# Altium footprint library ECG_Signals_V1.0_ZM_20211208.PcbLib: 23 footprints (part 2 of 2)
Each footprint in its own frame and in the unit in brackets; x right, y up, seen from the top. Pads: shape width x height; smd on the part's side, far side on the other; paste and mask are expansions set on the pad; w line width, h text height; cw(c..) or ccw(c..) is an arc to the next point about the centre after c.
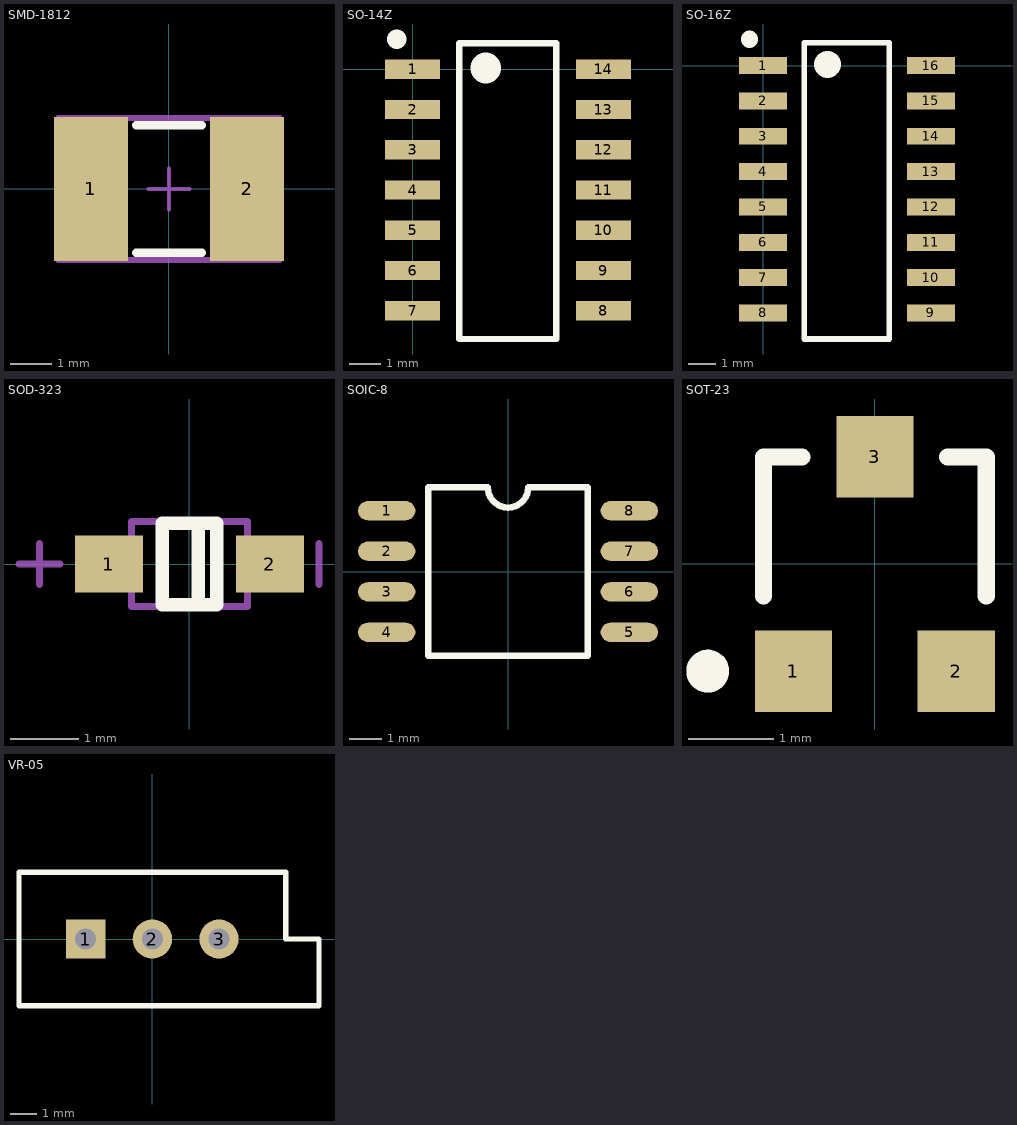
[diagram p1: the footprints below, top view; thin cyan lines are the x and y axes]

## SMD-1812 [mm]
height 2.65
pads (2):
  rect 1.8x3.5 smd: 1(-1.9,0) 2(1.9,0)
Top Overlay:
  lines w0.2: -0.8,-1.55 0.8,-1.55 ; -0.8,1.55 0.8,1.55
Mechanical 13:
  lines w0.1: -2.4,-1.7 2.4,-1.7 2.4,1.7 -2.4,1.7 -2.4,-1.7
Mechanical 15:
  lines w0.1: -0.5,0 0.5,0 ; 0,-0.5 0,0.5 ; -2.7,-1.75 2.7,-1.75 2.7,1.75 -2.7,1.75 -2.7,-1.75
3D body: height 1.4, standoff 0, extent -2.4,-1.7 2.4,1.7

## SO-14Z [mil]
height 104.33
pads (14):
  rect 68x24 smd: 1(0,0) 2(0,-50) 3(0,-100) 4(0,-150) 5(0,-200) 6(0,-250) 7(0,-300) 8(237.11,-300) 9(237.11,-250) 10(237.11,-200) 11(237.11,-150) 12(237.11,-100) 13(237.11,-50) 14(237.11,0)
Top Overlay:
  lines w8: 58.07,-335 178.35,-335 178.35,32.28 58.07,32.28 58.07,-335
  lines w24: -19.49,37.2 -19.49,37.6
  lines w38: 91.04,1.48 91.04,1.87

## SO-16Z [mil]
height 104.33
pads (16):
  rect 68x24 smd: 1(0,0) 2(0,-50) 3(0,-100) 4(0,-150) 5(0,-200) 6(0,-250) 7(0,-300) 8(0,-350) 9(237.11,-350) 10(237.11,-300) 11(237.11,-250) 12(237.11,-200) 13(237.11,-150) 14(237.11,-100) 15(237.11,-50) 16(237.11,0)
Top Overlay:
  lines w8: 58.07,-386.81 58.07,32.28 178.35,32.28 178.35,-386.81 58.07,-386.81
  lines w24: -19.49,37.2 -19.49,37.6
  lines w38: 91.04,1.48 91.04,1.87

## SOD-323 [mm]
height 2.65
pads (2):
  rect 1x0.83 smd: 1(-1.18,0) 2(1.18,0)
Top Overlay:
  lines w0.2: 0.13,-0.6 0.13,0.6 ; -0.4,-0.6 -0.4,0.6 0.4,0.6 0.4,-0.6 -0.4,-0.6
Mechanical 13:
  lines w0.1: -0.85,-0.625 -0.85,0.625 0.85,0.625 0.85,-0.625 -0.85,-0.625
Mechanical 15:
  lines w0.1: -2.5,0 -1.9,0 ; -2.2,-0.3 -2.2,0.3 ; 1.9,-0.3 1.9,0.3
3D body: height 0.75, standoff -0.01, extent -1.4,-0.675 1.4,0.675

## SOIC-8 [mm]
height 2.65
pads (8):
  oval 1.8x0.6 smd: 1(-3.8,1.905) 2(-3.8,0.635) 3(-3.8,-0.635) 4(-3.8,-1.905) 5(3.8,-1.905) 6(3.8,-0.635) 7(3.8,0.635) 8(3.8,1.905)
Top Overlay:
  lines w0.203: -0.635,2.637 ccw(c0,2.64) 0.635,2.637 ; -0.635,2.64 -2.5,2.64 -2.5,-2.64 2.489,-2.64 ; 0.635,2.64 2.489,2.64 ; 2.5,-2.64 2.5,2.64
3D body: height 2.3, standoff -0.02, extent -4.196,-2.69 4.196,2.69

## SOT-23 [mm] "SOT-23; 3 Leads; Body 3.0 x 2.6 mm, inc. leads (LxW max)"
height 1.1
pads (3):
  rect 0.9x0.95 smd: 1(-0.95,-1.25) 2(0.95,-1.25) 3(0,1.25)
Top Overlay:
  circle w0.25: c-1.95,-1.25 r0.125
  lines w0.2: -1.3,-0.375 -1.3,1.25 -0.85,1.25 ; 0.85,1.25 1.3,1.25 1.3,-0.375

## VR-05 [mm]
height 2.65
pads (3):
  rect 1.5x1.5 hole 0.8: 1(-2.54,0)
  round 1.5 hole 0.8: 2(0,0) 3(2.54,0)
Top Overlay:
  lines w0.2: -5.08,-2.54 6.35,-2.54 6.35,0 5.08,0 5.08,2.54 -5.08,2.54 -5.08,-2.54